# Altium schematic symbol library crystal_3215.SchLib: 1 symbol
Pins are listed as number, name and electrical type; pins without a type are passive.

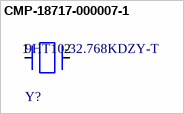
[diagram p0: symbol CMP-18717-000007-1]

## CMP-18717-000007-1
designator Y?, comment 9HT10-32.768KDZY-T
CRYSTAL 32.7680KHZ 7PF SMD; Tolerance: 20ppm; Frequency: 32.768kHz; ESR (Equivalent Series Resistance): 70kR; Case/Package: SMD/SMT; Load Capacitance: 7pF; Mount: Surface Mount; Package Quantity: 1; REACH SVHC: No SVHC; Packaging: Tape and Reel; Number of Pins: 2; Termination: SMD/SMT; Length: 0.126inch; Width: 1.5mm; Height: 0.033inch; Max Operating Temperature: 85°C; Lead Free: Lead Free; Min Operating Temperature: -40°C; Frequency Tolerance: 20ppm
footprint FP-9HT10-MFG
pins: 1, 2